# EAGLE library part EA_EDIPTFT57-A_SPI (library ea_v66)
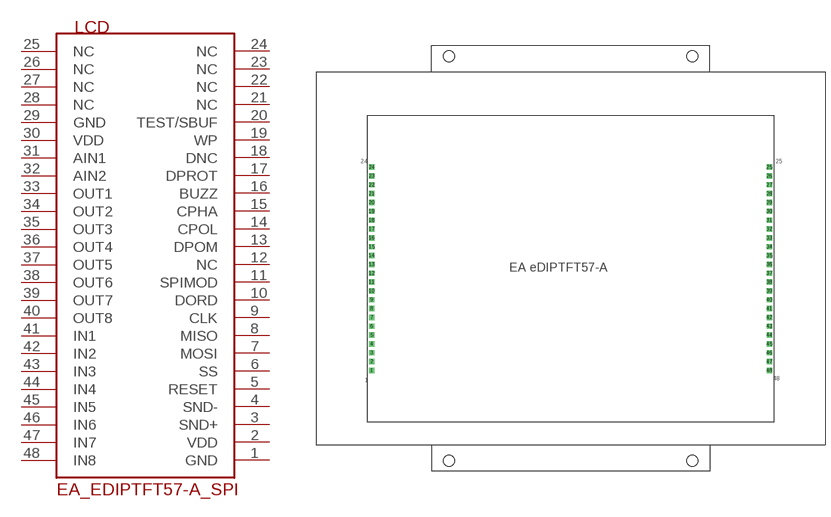
[diagram p15: symbol with the pads of EA_EDIPTFT57-A; footprint EA_EDIPTFT57-A]

Designator prefix LCD

## EA_EDIPTFT57-A_SPI  [EA_EDIPTFT57-A]
1  GND  pwr
2  VDD  pwr
3  SND+  pas
4  SND-  pas
5  RESET  in
6  SS  in
7  MOSI  in
8  MISO  out
9  CLK  in
10  DORD  in
11  SPIMOD  in
12  NC  nc
13  DPOM  in
14  CPOL  in
15  CPHA  in
16  BUZZ  out
17  DPROT  in
18  DNC  out
19  WP  in
20  TEST/SBUF
21  NC  nc
22  NC  nc
23  NC  nc
24  NC  nc
25  NC  nc
26  NC  nc
27  NC  nc
28  NC  nc
29  GND  pwr
30  VDD  pwr
31  AIN1  in
32  AIN2  in
33  OUT1  out
34  OUT2  out
35  OUT3  out
36  OUT4  out
37  OUT5  out
38  OUT6  out
39  OUT7  out
40  OUT8  out
41  IN1  in
42  IN2  in
43  IN3  in
44  IN4  in
45  IN5  in
46  IN6  in
47  IN7  in
48  IN8  in

## Footprint EA_EDIPTFT57-A (pad centres in mm)
drill 1.016 square: 1 0,0; 2 0,2.54; 3 0,5.08; 4 0,7.62; 5 0,10.16; 6 0,12.7; 7 0,15.24; 8 0,17.78; 9 0,20.32; 10 0,22.86; 11 0,25.4; 12 0,27.94; 13 0,30.48; 14 0,33.02; 15 0,35.56; 16 0,38.1; 17 0,40.64; 18 0,43.18; 19 0,45.72; 20 0,48.26; 21 0,50.8; 22 0,53.34; 23 0,55.88; 24 0,58.42; 25 114.3,58.42; 26 114.3,55.88; 27 114.3,53.34; 28 114.3,50.8; 29 114.3,48.26; 30 114.3,45.72; 31 114.3,43.18; 32 114.3,40.64; 33 114.3,38.1; 34 114.3,35.56; 35 114.3,33.02; 36 114.3,30.48; 37 114.3,27.94; 38 114.3,25.4; 39 114.3,22.86; 40 114.3,20.32; 41 114.3,17.78; 42 114.3,15.24; 43 114.3,12.7; 44 114.3,10.16; 45 114.3,7.62; 46 114.3,5.08; 47 114.3,2.54; 48 114.3,0
hole 3.2 at 22.15,-25.9
hole 3.2 at 92.15,-25.9
hole 3.2 at 92.15,90.3
hole 3.2 at 22.15,90.3